# Altium footprint library gecko3.PcbLib: 3 footprints
Each footprint in its own frame and in the unit in brackets; x right, y up, seen from the top. Pads: shape width x height; smd on the part's side, far side on the other; paste and mask are expansions set on the pad; w line width, h text height; cw(c..) or ccw(c..) is an arc to the next point about the centre after c.
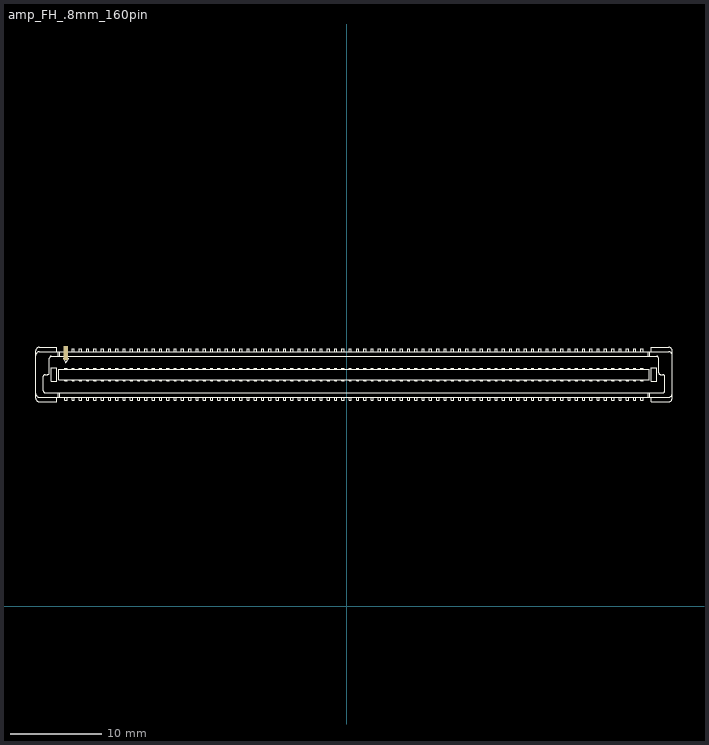
[diagram p0: the footprints below, top view; thin cyan lines are the x and y axes]

## amp_FH_.8mm_160pin [mm] "AMP Free Height System, 0.8mm 160 Pin"
height 10
pads (1):
  rect 0.5x1.524 smd: 4(-30.825,27.775)
Top Overlay:
  drawing of 1019 lines, arcs and shapes, not listed

## PCBComponent_1 - duplicate [mm]

## PCBComponent_1 - duplicate1 [mm]